# Altium integrated library 25157.IntLib: 97 symbols
Pins are listed as number, name and electrical type; pins without a type are passive.

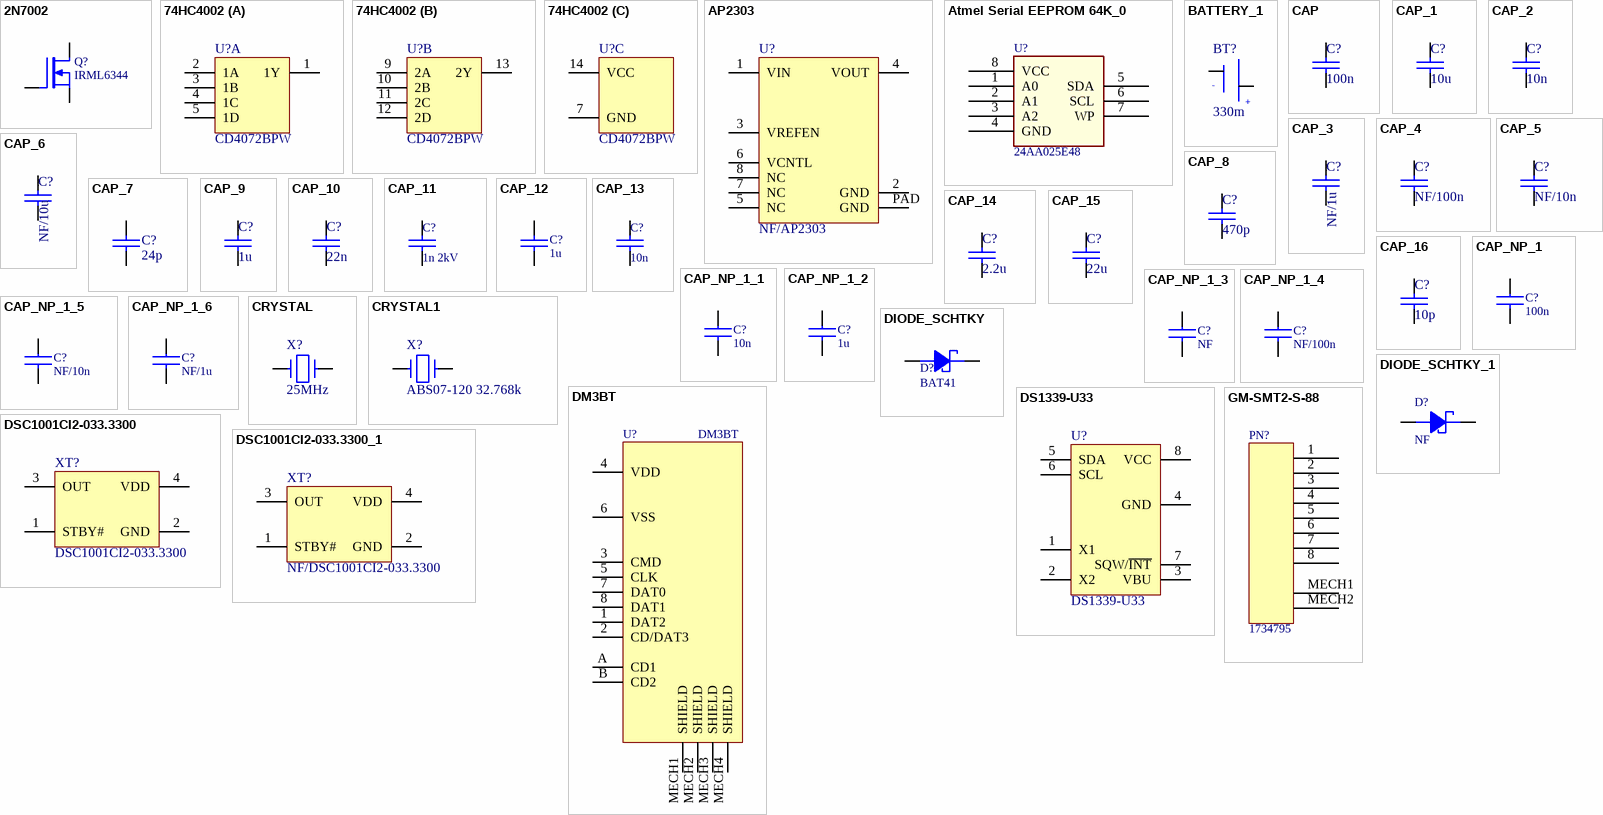
[diagram p0: symbols 2N7002 to GM-SMT2-S-88]

## 2N7002
designator Q?, comment IRML6344
IRLML6344, N-channel MOSFET, logic level gate, Rds: 29mOhm, Id: 5A, Vds: 30V,  SOT-23, RoHS compliant; ID: 18539; DBdesc: IRLML6344, N-channel MOSFET, logic level gate, Rds: 29mOhm, Id: 5A, Vds: 30V,  SOT-23, RoHS compliant
footprint SOT-23 (3 pin SOT-23 SMD)
pins: 1 G, 2 S, 3 D

## 74HC4002
designator U?, comment CD4072BPW
ID: 28923; DBDesc: CD4072 dual 4-input OR gate, TSSOP-14, RoHS compliant
footprint TSSOP14 (TSOP, 14-Leads, Body 5.0x4.4mm (max), Pitch 0.65mm, IPC Medium Density)
part A pins: 1 1Y, 2 1A, 3 1B, 4 1C, 5 1D
part B pins: 9 2A, 10 2B, 11 2C, 12 2D, 13 2Y
part C pins: 6 NC hidden, 7 GND, 8 NC hidden, 14 VCC

## AP2303
designator U?, comment NF/AP2303
ID: 908; DBDesc: do not populate, RoHS compliant
footprint PSOP-8
footprint NF_PSOP-8
pins: 1 VIN, 2 GND, 3 VREFEN, 4 VOUT, 5 NC, 6 VCNTL, 7 NC, 8 NC, PAD GND

## Atmel Serial EEPROM 64K_0
designator U?, comment 24AA025E48
Microchip 24AA02E48-I/SN, 2kbit (256x8) CMOS MAC-addressable I2C EEPROM, 1.8V, SO-8, non-selectable address (fixed at 1010 ***X), RoHS compliant; ID: 17759; DBDesc: Microchip 24AA02E48-I/SN, 2kbit (256x8) CMOS MAC-addressable I2C EEPROM, 1.8V, SO-8, non-selectable address (fixed at 1010 ***X), RoHS compliant
footprint SO-8 (8 pin Small Outline SMD)
pins: 1 A0, 2 A1, 3 A2, 4 GND (power), 5 SDA, 6 SCL, 7 WP, 8 VCC (power)

## BATTERY_1
designator BT?, comment 330m
Panasonic ML1220/F1AN, Manganese Lithium coin battery, 3V, PCB SMT,, RoHS compliant; DBDesc: 330m 5.5V super capacitor -40-+85degC 13.5mm 8.5mm tall, RoHS compliant (DUPLICATE OF ID#22645); ID: 27713
footprint KW-5R5C
pins: 1 pos1, 2 neg
text: -; +

## CAP
designator C?, comment 100n
10u 20% 6.3V 0603 X5R ceramic capacitor, RoHS compliant; DBDesc: 100n 16V X7R 10% 0402 ceramic capacitor, RoHS compliant; ID: 12509
footprint 0402C (Footprint not found)
pins: 1, 2

## CAP_1
designator C?, comment 10u
10u 20% 6.3V 0603 X5R ceramic capacitor, RoHS compliant; ID: 11253; DBDesc: 10u 20% 6.3V 0603 X5R ceramic capacitor, RoHS compliant
footprint 0603C
pins: 1, 2

## CAP_2
designator C?, comment 10n
10u 20% 6.3V 0603 X5R ceramic capacitor, RoHS compliant; DBDesc: 10n 10% 50V 0402 X7R ceramic capacitor, RoHS compliant; ID: 16887
footprint 0402C (Footprint not found)
footprint 0402C_SML
pins: 1, 2

## CAP_3
designator C?, comment NF/1u
10u 20% 6.3V 0603 X5R ceramic capacitor, RoHS compliant; DBDesc: do not populate, RoHS compliant; ID: 908; Preffered ID: 16358
footprint 0402C (Footprint not found)
footprint NF_0402C
pins: 1, 2

## CAP_4
designator C?, comment NF/100n
10u 20% 6.3V 0603 X5R ceramic capacitor, RoHS compliant; DBDesc: do not populate, RoHS compliant; ID: 908
footprint 0402C (Footprint not found)
footprint NF_0402C
pins: 1, 2

## CAP_5
designator C?, comment NF/10n
10u 20% 6.3V 0603 X5R ceramic capacitor, RoHS compliant; DBDesc: do not populate, RoHS compliant; ID: 908
footprint 0402C (Footprint not found)
footprint NF_0402C
pins: 1, 2

## CAP_6
designator C?, comment NF/10u
10u 20% 6.3V 0603 X5R ceramic capacitor, RoHS compliant; DBDesc: do not populate, RoHS compliant; ID: 908; Preffered ID: 11253
footprint 0603C
footprint NF_0603C
pins: 1, 2

## CAP_7
designator C?, comment 24p
100n 10% 50V 0603 X7R; DBDesc: 24p 2% 50V 0402 NPO ceramic capacitor, RoHS compliant; ID: 22456
footprint 0402C (Chip Capacitor, 2-Leads, Body 1.0x0.5mm, IPC Medium Density)
pins: 1, 2

## CAP_8
designator C?, comment 470p
10u 20% 6.3V 0603 X5R ceramic capacitor, RoHS compliant; DBDesc: 470p 5% 50V NPO 0402 ceramic capacitor, RoHS compliant; ID: 11966
footprint 0402C (Footprint not found)
pins: 1, 2

## CAP_9
designator C?, comment 1u
10u 20% 6.3V 0603 X5R ceramic capacitor, RoHS compliant; DBDesc: 1u 10% 16V X5R 0402 ceramic capacitor, RoHS compliant; ID: 16358
footprint 0402C (Footprint not found)
pins: 1, 2

## CAP_10
designator C?, comment 22n
10u 20% 6.3V 0603 X5R ceramic capacitor, RoHS compliant; DBDesc: 22n 25V X7R 10% 0402 ceramic capacitor, RoHS compliant; ID: 20128
footprint 0402C (Footprint not found)
pins: 1, 2

## CAP_11
designator C?, comment 1n 2kV
1n 10% 2kV 1206 X7R ceramic capacitor, RoHS compliant; ID: 15771; DBDesc: 1n 10% 2kV 1206 X7R ceramic capacitor, RoHS compliant
footprint 1206C
pins: 1, 2

## CAP_12
designator C?, comment 1u
1u 10% 16V X5R 0402 ceramic capacitor, RoHS compliant; ID: 16358; DBDesc: 1u 10% 16V X5R 0402 ceramic capacitor, RoHS compliant
footprint 0402C
pins: 1, 2

## CAP_13
designator C?, comment 10n
100n 6.3V X7R 10% 0402 ceramic capacitor, RoHS compliant (SUPERSEDED BY ID#12509); DBDesc: 10n 10% 50V 0402 X7R ceramic capacitor, RoHS compliant; ID: 16887
footprint 0402C
pins: 1, 2

## CAP_14
designator C?, comment 2.2u
10u 20% 6.3V 0603 X5R ceramic capacitor, RoHS compliant; DBDesc: 2.2u 6.3V 10% X5R 0402 ceramic capacitor, RoHS compliant; ID: 16336
footprint 0402C (Footprint not found)
footprint 0402C_SML
pins: 1, 2

## CAP_15
designator C?, comment 22u
10u 20% 6.3V 0603 X5R ceramic capacitor, RoHS compliant; DBDesc: 22u, 0805, ceramic capacitor, 10V, X5R, +/-20%, 1.35mm thick, -55°C ~ 85°C, RoHS compliant (CAN FREELY SUBSTITUTE WITH ID#11837); ID: 18236
footprint 0805C
pins: 1, 2

## CAP_16
designator C?, comment 10p
10u 20% 6.3V 0603 X5R ceramic capacitor, RoHS compliant; DBDesc: 10p 5% 50V 0402 NPO ceramic capacitor AEC-Q200 qualified, RoHS compliant; ID: 23136
footprint 0402C (Footprint not found)
pins: 1, 2

## CAP_NP_1
designator C?, comment 100n
100n 6.3V X7R 10% 0402 ceramic capacitor, RoHS compliant (SUPERSEDED BY ID#12509); DBDesc: 100n 16V X7R 10% 0402 ceramic capacitor, RoHS compliant; ID: 12509
footprint 0402C
pins: 1, 2

## CAP_NP_1_1
designator C?, comment 10n
100n 6.3V X7R 10% 0402 ceramic capacitor, RoHS compliant (SUPERSEDED BY ID#12509); DBDesc: 10n 10% 50V 0402 X7R ceramic capacitor, RoHS compliant; ID: 16887
footprint 0402C
pins: 1, 2

## CAP_NP_1_2
designator C?, comment 1u
100n 6.3V X7R 10% 0402 ceramic capacitor, RoHS compliant (SUPERSEDED BY ID#12509); DBDesc: 1u 10% 16V X5R 0402 ceramic capacitor, RoHS compliant; ID: 16358
footprint 0402C
pins: 1, 2

## CAP_NP_1_3
designator C?, comment NF
100n 6.3V X7R 10% 0402 ceramic capacitor, RoHS compliant (SUPERSEDED BY ID#12509); DBDesc: do not populate, RoHS compliant; ID: 908; Preffered ID: 908
footprint 0402C
footprint NF_0402C
pins: 1, 2

## CAP_NP_1_4
designator C?, comment NF/100n
100n 6.3V X7R 10% 0402 ceramic capacitor, RoHS compliant (SUPERSEDED BY ID#12509); DBDesc: do not populate, RoHS compliant; ID: 908
footprint 0402C_SML (Chip Capacitor, 2-Leads, Body 1.0x0.5mm, IPC Medium Density)
footprint NF_0402C_SML
pins: 1, 2

## CAP_NP_1_5
designator C?, comment NF/10n
100n 6.3V X7R 10% 0402 ceramic capacitor, RoHS compliant (SUPERSEDED BY ID#12509); DBDesc: do not populate, RoHS compliant; ID: 908
footprint 0402C
footprint NF_0402C
pins: 1, 2

## CAP_NP_1_6
designator C?, comment NF/1u
100n 6.3V X7R 10% 0402 ceramic capacitor, RoHS compliant (SUPERSEDED BY ID#12509); DBDesc: do not populate, RoHS compliant; ID: 908
footprint 0402C
footprint NF_0402C
pins: 1, 2

## CRYSTAL
designator X?, comment 25MHz
25.0000 MHz CS325 18pF SMD Crystal, RoHS compliant; DBDesc: CTS 25MHz crystal, ±30ppm frequency stability, ±20ppm frequency tolerance, 18pF, 40ohm, -40°C ~ 85°C, 5mm x 3.2mm, RoHS compliant; ID: 24153
footprint CTS_445
pins: 1, 2

## CRYSTAL1
designator X?, comment ABS07-120 32.768k
ID: 22914; DBDesc: 32.768kHz ABS07-120, 20ppm, 6pF load, 60k ESR, 3.2x1.5mm crystal, RoHS compliant
footprint ABS07
pins: 1, 2

## DIODE_SCHTKY
designator D?, comment BAT41
'''BAT41 Schottky diode, small signal''' / - If(avg) = 200mA, Vf(max) = 1V@200mA / - Vr(max) = 100V, Ir = 100nA@50V, 25deg / - SOD-523 package, RoHS compliant; DBDesc: BAT41KFILM 200mA 100V Schottky diode, small signal SOD-523 package, RoHS compliant; ID: 20995
footprint SOD-523
pins: 1 A, 2 C

## DIODE_SCHTKY_1
designator D?, comment NF
'''BAT41 Schottky diode, small signal''' / - If(avg) = 200mA, Vf(max) = 1V@200mA / - Vr(max) = 100V, Ir = 100nA@50V, 25deg / - SOD-523 package, RoHS compliant; DBDesc: do not populate, RoHS compliant; ID: 908; Preffered ID: 20995
footprint NF_SOD-523 (Footprint not found)
pins: 1 A, 2 C

## DM3BT
designator U?
Hirose DM3BT-DSF-PEJS microSD push-push bottom mount connector, RoHS compliant; ID: 20804; DBDesc: Hirose DM3BT-DSF-PEJS microSD push-push bottom mount connector, RoHS compliant
footprint DM3BT-DSF-PEJS
pins: 1 DAT2, 2 CD/DAT3, 3 CMD, 4 VDD, 5 CLK, 6 VSS, 7 DAT0, 8 DAT1, A CD1, B CD2, MECH1 SHIELD, MECH2 SHIELD, MECH3 SHIELD, MECH4 SHIELD

## DS1339-U33
designator U?
DBDesc: DS1339U-33+ RTC I2C w/alarm USOP-8, RoHS compliant; ID: 11376
footprint USOP-8
pins: 1 X1, 2 X2, 3 VBU, 4 GND, 5 SDA, 6 SCL, 7 SQW/~{INT}, 8 VCC

## DSC1001CI2-033.3300
designator XT?
DBDesc: Micrel DSC1001CI2-033.3300, MEMS oscillator, 33.33MHz, ±25ppm, 1.8V ~ 3.3V, -40°C ~ +85°C, 3.2mm x 2.5mm, AEC-Q100, RoHS compliant; ID: 25867
footprint DSC1001
pins: 1 STBY#, 2 GND, 3 OUT, 4 VDD

## DSC1001CI2-033.3300_1
designator XT?, comment NF/DSC1001CI2-033.3300
DSC1001CI2-033.3300; DBDesc: do not populate, RoHS compliant; ID: 908
footprint DSC1001
footprint NF_DSC1001
pins: 1 STBY#, 2 GND, 3 OUT, 4 VDD

## GM-SMT2-S-88
designator PN?, comment 1734795
Amphenol Commercial Products / RJLSE4238101T Right-angle RJ45 8P8C Shielded, RoHS compliant; DBDesc: TE Connectivity 1734795-1, RJ-45 jack, through hole, RoHS compliant; ID: 26274
footprint 1734795; pin to pad MECH>MECH2 MECH1>SH1 MECH2>SH2
pins: 1, 2, 3, 4, 5, 6, 7, 8, MECH1, MECH2

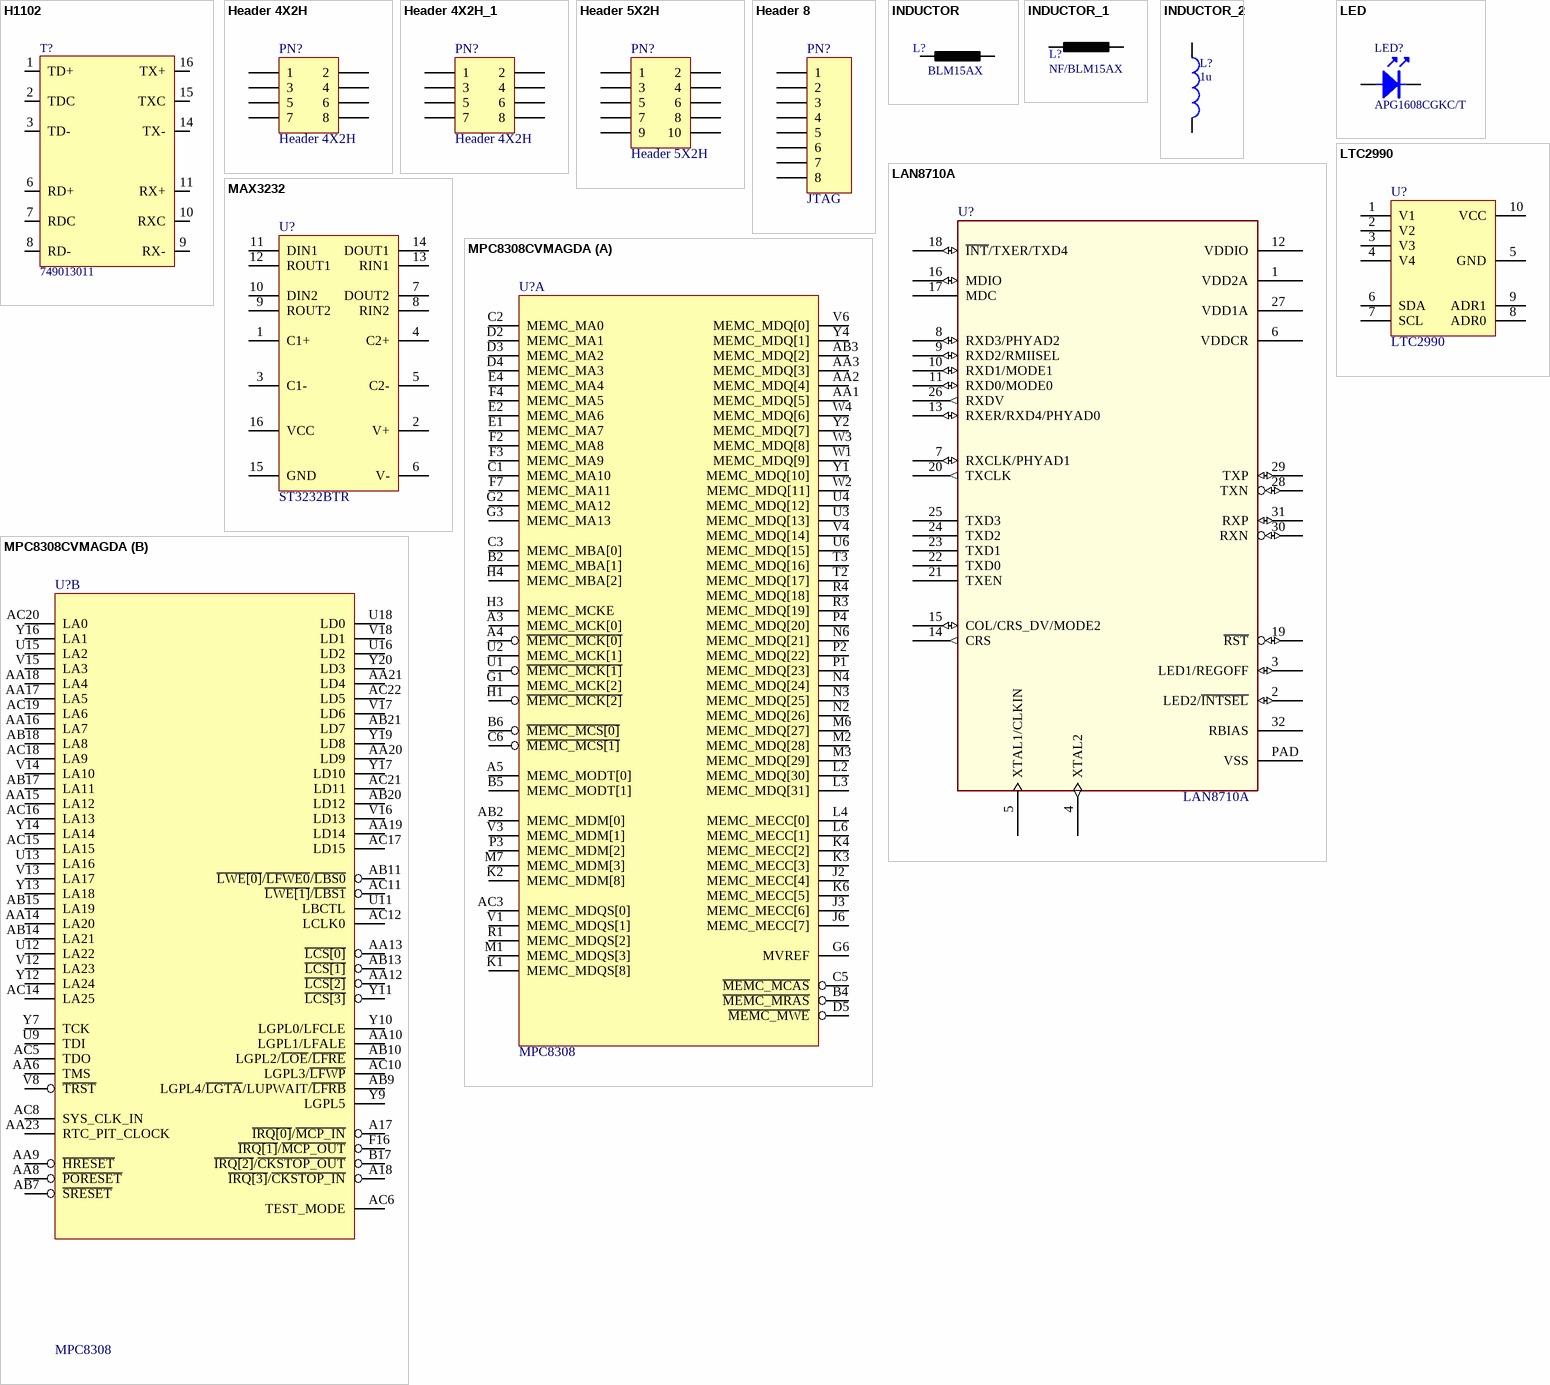
[diagram p1: symbols H1102 to MPC8308CVMAGDA]

## H1102
designator T?, comment 749013011
Wurth-Midcom 749013011 10/100Mb 1:1 Ethernet 802.3af PoE transformer, 16-pin SMT package, RoHS compliant; ID: 20893; DBDesc: Wurth-Midcom 749013011 10/100Mb 1:1 Ethernet 802.3af PoE transformer, 16-pin SMT package, RoHS compliant
footprint H1102
pins: 1 TD+, 2 TDC, 3 TD-, 6 RD+, 7 RDC, 8 RD-, 9 RX-, 10 RXC, 11 RX+, 14 TX-, 15 TXC, 16 TX+

## Header 4X2H
designator PN?
Header, 4-Pin, Dual row, Right Angle; DBDesc: 4+4 pin dual-row gold-plated right angle pin header 2.54mm pitch (BREAK OFF FROM ID#596); ID: 3161
footprint 2.54_2x4
pins: 1, 2, 3, 4, 5, 6, 7, 8

## Header 4X2H_1
designator PN?, comment Header 4X2H
Header, 4-Pin, Dual row, Vertical; DBDesc: 4+4-pin dual-row gold-plated vertical pin header 2.54mm pitch (BREAK OFF FROM ID#8823), RoHS compliant (CAN FREELY SUBSTITUTE WITH ID#8823); ID: 890
footprint 2.54_2x4_V
pins: 1, 2, 3, 4, 5, 6, 7, 8

## Header 5X2H
designator PN?
Header, 5-Pin, Dual row, Right Angle; DBDesc: 5+5-pin right angle dual-row gold-plated horizontal pin header 2.54mm pitch (BREAK OFF FROM ID#596) or (BREAK OFF FROM ID#11100), RoHS compliant; ID: 11101
footprint 2.54_2x5
pins: 1, 2, 3, 4, 5, 6, 7, 8, 9, 10

## Header 8
designator PN?, comment JTAG
pin header, single-row 8-way 2.54mm-pitch straight gold; ID: 5634; DBDesc: pin header, single-row 8-way 2.54mm-pitch straight gold (BREAK OFF FROM ID#677 OR ID#13131), RoHS compliant (SUPERSEDED BY ID#13131)
footprint 2.54_1x8
pins: 1, 2, 3, 4, 5, 6, 7, 8

## INDUCTOR
designator L?, comment BLM15AX
BLM15AX601SN1D, 340mR/600R (100MHz) 420mA 0402 ferrite bead, RoHS compliant; ID: 16397; DBDesc: BLM15AX601SN1D, 340mR/600R (100MHz) 420mA 0402 ferrite bead, RoHS compliant
footprint 0402L
pins: 1, 2

## INDUCTOR_1
designator L?, comment NF/BLM15AX
BLM15AX601SN1D, 340mR/600R (100MHz) 420mA 0402 ferrite bead, RoHS compliant; DBDesc: do not populate, RoHS compliant; ID: 908
footprint 0402L
footprint NF_0402L
pins: 1, 2

## INDUCTOR_2
designator L?, comment 1u
1u 3.8A 25mR 20% IFSC-1515 inductor, RoHS compliant; DBDesc: Wurth 74404042010, 1u 3.2A 27mR 30% inductor, RoHS compliant; ID: 25863
footprint WE-LQS
pins: 1, 2

## LAN8710A
designator U?
SMSC/Microchip LAN8710AI MII/RMII 10/100 Ethernet PHY QFN-32; ID: 22445; DBDesc: '''SMSC/Microchip LAN8710AI MII/RMII 10/100 Ethernet PHY QFN-32''' / - Single Supply: +1.6V -> +3.6V or external +1.2V / - -40degC -> +85degC, RoHS compliant
footprint QFN32-SMSC-5x5mm
pins: 1 VDD2A (power), 2 LED2/~{INTSEL} (io), 3 LED1/REGOFF (io), 4 XTAL2 (out), 5 XTAL1/CLKIN, 6 VDDCR (power), 7 RXCLK/PHYAD1 (io), 8 RXD3/PHYAD2 (io), 9 RXD2/RMIISEL (io), 10 RXD1/MODE1 (io), 11 RXD0/MODE0 (io), 12 VDDIO (power), 13 RXER/RXD4/PHYAD0 (io), 14 CRS (out), 15 COL/CRS_DV/MODE2 (io), 16 MDIO (io), 17 MDC, 18 ~{INT}/TXER/TXD4 (io), 19 ~{RST} (io), 20 TXCLK (out), 21 TXEN, 22 TXD0, 23 TXD1, 24 TXD2, 25 TXD3, 26 RXDV (out), 27 VDD1A (power), 28 TXN (io), 29 TXP (io), 30 RXN (io), 31 RXP (io), 32 RBIAS (power), PAD VSS (power)

## LED
designator LED?, comment APG1608CGKC/T
Lite-On LTST-S110KGKT, green SMT LED, right angle, 130° viewing angle, Vf=2V, 35mcd, RoHS compliant; DBDesc: '''Kingbright APG1608CGKC/T''' / (LED 1.6X0.8MM 571NM GRN CLR SMD) / Colour: Green / Forward Current: 20mA / Wavelength 571nm / Viewing angle: 120° / , RoHS compliant; ID: 25406
footprint APG1608
pins: 1, 2

## LTC2990
designator U?
ID: 19355; DBDesc: Linear LTC2990IMS quad I2C voltage, current and temperature monitor, -40°C to +85°C, 10-pin MSOP, RoHS compliant
footprint MSOP-10 (Footprint not found)
pins: 1 V1, 2 V2, 3 V3, 4 V4, 5 GND, 6 SDA, 7 SCL, 8 ADR0, 9 ADR1, 10 VCC

## MAX3232
designator U?, comment ST3232BTR
ST Microelectronics ST3232BTR, 16-TSSOP RS232 2Tx/2Rx 3–5V -40—85 degrees, RoHS compliant; ID: 14620; DBDesc: ST Microelectronics ST3232BTR, 16-TSSOP RS232 2Tx/2Rx 3–5V -40—85 degrees, RoHS compliant
footprint TSSOP-16
pins: 1 C1+, 2 V+ (power), 3 C1-, 4 C2+, 5 C2-, 6 V- (power), 7 DOUT2, 8 RIN2, 9 ROUT2, 10 DIN2, 11 DIN1, 12 ROUT1, 13 RIN1, 14 DOUT1, 15 GND (power), 16 VCC (power)

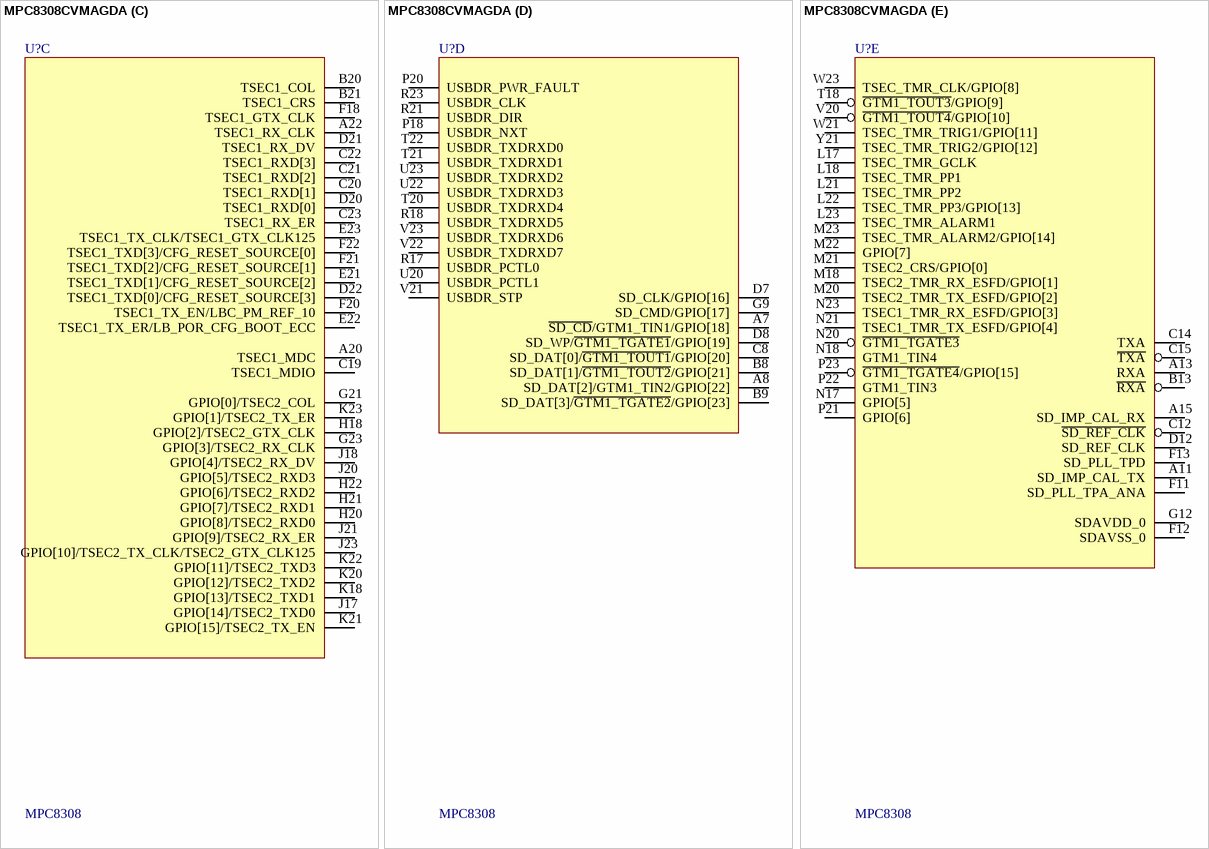
[diagram p2: symbol MPC8308CVMAGDA]

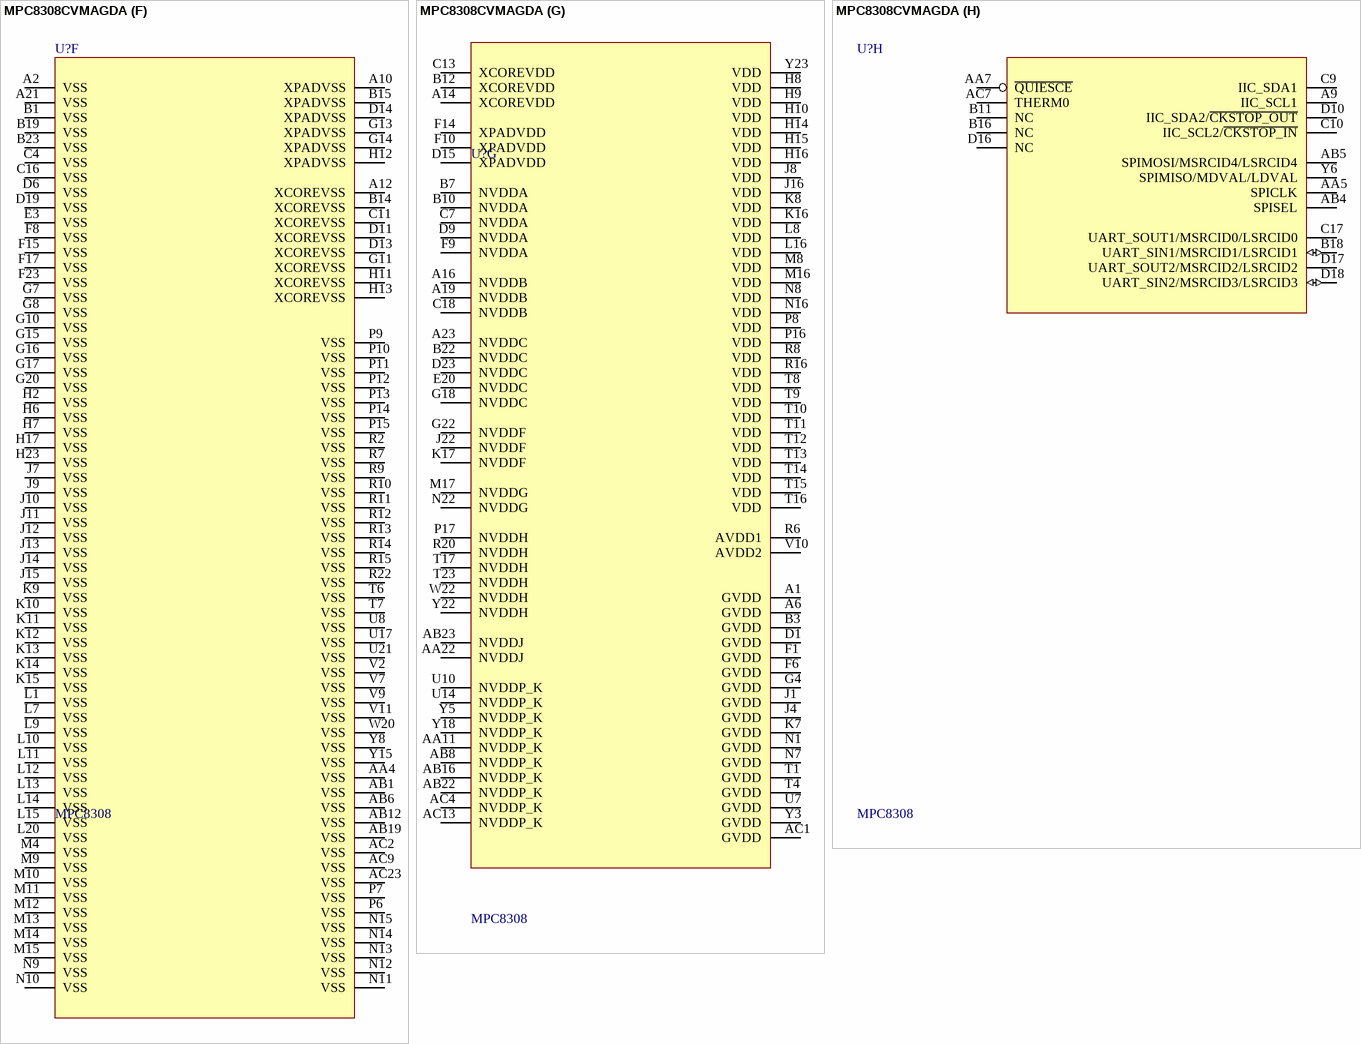
[diagram p3: symbol MPC8308CVMAGDA]

## MPC8308CVMAGDA
designator U?, comment MPC8308
DBDesc: Freescale MPC8308CVMAGDA 400MHz PowerPC Processor TEPBGAII, RoHS compliant; ID: 24087
footprint MAPBGA-MPC8308
part A pins: A3 MEMC_MCK[0], A4 ~{MEMC_MCK[0]}, A5 MEMC_MODT[0], AA1 MEMC_MDQ[5], AA2 MEMC_MDQ[4], AA3 MEMC_MDQ[3], AB2 MEMC_MDM[0], AB3 MEMC_MDQ[2], AC3 MEMC_MDQS[0], B2 MEMC_MBA[1], B4 ~{MEMC_MRAS}, B5 MEMC_MODT[1], B6 ~{MEMC_MCS[0]}, C1 MEMC_MA10, C2 MEMC_MA0, C3 MEMC_MBA[0], C5 ~{MEMC_MCAS}, C6 ~{MEMC_MCS[1]}, D2 MEMC_MA1, D3 MEMC_MA2, D4 MEMC_MA3, D5 ~{MEMC_MWE}, E1 MEMC_MA7, E2 MEMC_MA6, E4 MEMC_MA4, F2 MEMC_MA8, F3 MEMC_MA9, F4 MEMC_MA5, F7 MEMC_MA11, G1 MEMC_MCK[2], G2 MEMC_MA12, G3 MEMC_MA13, G6 MVREF, H1 ~{MEMC_MCK[2]}, H3 MEMC_MCKE, H4 MEMC_MBA[2], J2 MEMC_MECC[4], J3 MEMC_MECC[6], J6 MEMC_MECC[7], K1 MEMC_MDQS[8], K2 MEMC_MDM[8], K3 MEMC_MECC[3], K4 MEMC_MECC[2], K6 MEMC_MECC[5], L2 MEMC_MDQ[30], L3 MEMC_MDQ[31], L4 MEMC_MECC[0], L6 MEMC_MECC[1], M1 MEMC_MDQS[3], M2 MEMC_MDQ[28], M3 MEMC_MDQ[29], M6 MEMC_MDQ[27], M7 MEMC_MDM[3], N2 MEMC_MDQ[26], N3 MEMC_MDQ[25], N4 MEMC_MDQ[24], N6 MEMC_MDQ[21], P1 MEMC_MDQ[23], P2 MEMC_MDQ[22], P3 MEMC_MDM[2], P4 MEMC_MDQ[20], R1 MEMC_MDQS[2], R3 MEMC_MDQ[19], R4 MEMC_MDQ[18], T2 MEMC_MDQ[17], T3 MEMC_MDQ[16], U1 ~{MEMC_MCK[1]}, U2 MEMC_MCK[1], U3 MEMC_MDQ[13], U4 MEMC_MDQ[12], U6 MEMC_MDQ[15], V1 MEMC_MDQS[1], V3 MEMC_MDM[1], V4 MEMC_MDQ[14], V6 MEMC_MDQ[0], W1 MEMC_MDQ[9], W2 MEMC_MDQ[11], W3 MEMC_MDQ[8], W4 MEMC_MDQ[6], Y1 MEMC_MDQ[10], Y2 MEMC_MDQ[7], Y4 MEMC_MDQ[1]
part B pins: A17 ~{IRQ[0]}/~{MCP_IN}, A18 ~{IRQ[3]}/~{CKSTOP_IN}, AA6 TMS, AA8 ~{PORESET}, AA9 ~{HRESET}, AA10 LGPL1/LFALE, AA12 ~{LCS[2]}, AA13 ~{LCS[0]}, AA14 LA20, AA15 LA12, AA16 LA7, AA17 LA5, AA18 LA4, AA19 LD14, AA20 LD9, AA21 LD4, AA23 RTC_PIT_CLOCK, AB7 ~{SRESET}, AB9 LGPL4/~{LGTA}/LUPWAIT/~{LFRB}, AB10 LGPL2/~{LOE}/~{LFRE}, AB11 ~{LWE[0]}/~{LFWE0}/~{LBS0}, AB13 ~{LCS[1]}, AB14 LA21, AB15 LA19, AB17 LA11, AB18 LA8, AB20 LD12, AB21 LD7, AC5 TDO, AC6 TEST_MODE, AC8 SYS_CLK_IN, AC10 LGPL3/~{LFWP}, AC11 ~{LWE[1]}/~{LBS1}, AC12 LCLK0, AC14 LA25, AC15 LA15, AC16 LA13, AC17 LD15, AC18 LA9, AC19 LA6, AC20 LA0, AC21 LD11, AC22 LD5, B17 ~{IRQ[2]}/~{CKSTOP_OUT}, F16 ~{IRQ[1]}/~{MCP_OUT}, U9 TDI, U11 LBCTL, U12 LA22, U13 LA16, U15 LA2, U16 LD2, U18 LD0, V8 ~{TRST}, V12 LA23, V13 LA17, V14 LA10, V15 LA3, V16 LD13, V17 LD6, V18 LD1, Y7 TCK, Y9 LGPL5, Y10 LGPL0/LFCLE, Y11 ~{LCS[3]}, Y12 LA24, Y13 LA18, Y14 LA14, Y16 LA1, Y17 LD10, Y19 LD8, Y20 LD3
part C pins: A20 TSEC1_MDC, A22 TSEC1_RX_CLK, B20 TSEC1_COL, B21 TSEC1_CRS, C19 TSEC1_MDIO, C20 TSEC1_RXD[1], C21 TSEC1_RXD[2], C22 TSEC1_RXD[3], C23 TSEC1_RX_ER, D20 TSEC1_RXD[0], D21 TSEC1_RX_DV, D22 TSEC1_TXD[0]/CFG_RESET_SOURCE[3], E21 TSEC1_TXD[1]/CFG_RESET_SOURCE[2], E22 TSEC1_TX_ER/LB_POR_CFG_BOOT_ECC, E23 TSEC1_TX_CLK/TSEC1_GTX_CLK125, F18 TSEC1_GTX_CLK, F20 TSEC1_TX_EN/LBC_PM_REF_10, F21 TSEC1_TXD[2]/CFG_RESET_SOURCE[1], F22 TSEC1_TXD[3]/CFG_RESET_SOURCE[0], G21 GPIO[0]/TSEC2_COL, G23 GPIO[3]/TSEC2_RX_CLK, H18 GPIO[2]/TSEC2_GTX_CLK, H20 GPIO[8]/TSEC2_RXD0, H21 GPIO[7]/TSEC2_RXD1, H22 GPIO[6]/TSEC2_RXD2, J17 GPIO[14]/TSEC2_TXD0, J18 GPIO[4]/TSEC2_RX_DV, J20 GPIO[5]/TSEC2_RXD3, J21 GPIO[9]/TSEC2_RX_ER, J23 GPIO[10]/TSEC2_TX_CLK/TSEC2_GTX_CLK125, K18 GPIO[13]/TSEC2_TXD1, K20 GPIO[12]/TSEC2_TXD2, K21 GPIO[15]/TSEC2_TX_EN, K22 GPIO[11]/TSEC2_TXD3, K23 GPIO[1]/TSEC2_TX_ER
part D pins: A7 ~{SD_CD}/GTM1_TIN1/GPIO[18], A8 SD_DAT[2]/GTM1_TIN2/GPIO[22], B8 SD_DAT[1]/~{GTM1_TOUT2}/GPIO[21], B9 SD_DAT[3]/~{GTM1_TGATE2}/GPIO[23], C8 SD_DAT[0]/~{GTM1_TOUT1}/GPIO[20], D7 SD_CLK/GPIO[16], D8 SD_WP/~{GTM1_TGATE1}/GPIO[19], G9 SD_CMD/GPIO[17], P18 USBDR_NXT, P20 USBDR_PWR_FAULT, R17 USBDR_PCTL0, R18 USBDR_TXDRXD5, R21 USBDR_DIR, R23 USBDR_CLK, T20 USBDR_TXDRXD4, T21 USBDR_TXDRXD1, T22 USBDR_TXDRXD0, U20 USBDR_PCTL1, U22 USBDR_TXDRXD3, U23 USBDR_TXDRXD2, V21 USBDR_STP, V22 USBDR_TXDRXD7, V23 USBDR_TXDRXD6
part E pins: A11 SD_IMP_CAL_TX, A13 RXA, A15 SD_IMP_CAL_RX, B13 ~{RXA}, C12 ~{SD_REF_CLK}, C14 TXA, C15 ~{TXA}, D12 SD_REF_CLK, F11 SD_PLL_TPA_ANA, F12 SDAVSS_0, F13 SD_PLL_TPD, G12 SDAVDD_0, L17 TSEC_TMR_GCLK, L18 TSEC_TMR_PP1, L21 TSEC_TMR_PP2, L22 TSEC_TMR_PP3/GPIO[13], L23 TSEC_TMR_ALARM1, M18 TSEC2_TMR_RX_ESFD/GPIO[1], M20 TSEC2_TMR_TX_ESFD/GPIO[2], M21 TSEC2_CRS/GPIO[0], M22 GPIO[7], M23 TSEC_TMR_ALARM2/GPIO[14], N17 GPIO[5], N18 GTM1_TIN4, N20 ~{GTM1_TGATE3}, N21 TSEC1_TMR_TX_ESFD/GPIO[4], N23 TSEC1_TMR_RX_ESFD/GPIO[3], P21 GPIO[6], P22 GTM1_TIN3, P23 ~{GTM1_TGATE4}/GPIO[15], T18 ~{GTM1_TOUT3}/GPIO[9], V20 ~{GTM1_TOUT4}/GPIO[10], W21 TSEC_TMR_TRIG1/GPIO[11], W23 TSEC_TMR_CLK/GPIO[8], Y21 TSEC_TMR_TRIG2/GPIO[12]
part F pins: A2 VSS, A10 XPADVSS, A12 XCOREVSS, A21 VSS, AA4 VSS, AB1 VSS, AB6 VSS, AB12 VSS, AB19 VSS, AC2 VSS, AC9 VSS, AC23 VSS, B1 VSS, B14 XCOREVSS, B15 XPADVSS, B19 VSS, B23 VSS, C4 VSS, C11 XCOREVSS, C16 VSS, D6 VSS, D11 XCOREVSS, D13 XCOREVSS, D14 XPADVSS, D19 VSS, E3 VSS, F8 VSS, F15 VSS, F17 VSS, F23 VSS, G7 VSS, G8 VSS, G10 VSS, G11 XCOREVSS, G13 XPADVSS, G14 XPADVSS, G15 VSS, G16 VSS, G17 VSS, G20 VSS, H2 VSS, H6 VSS, H7 VSS, H11 XCOREVSS, H12 XPADVSS, H13 XCOREVSS, H17 VSS, H23 VSS, J7 VSS, J9 VSS, J10 VSS, J11 VSS, J12 VSS, J13 VSS, J14 VSS, J15 VSS, K9 VSS, K10 VSS, K11 VSS, K12 VSS, K13 VSS, K14 VSS, K15 VSS, L1 VSS, L7 VSS, L9 VSS, L10 VSS, L11 VSS, L12 VSS, L13 VSS, L14 VSS, L15 VSS, L20 VSS, M4 VSS, M9 VSS, M10 VSS, M11 VSS, M12 VSS, M13 VSS, M14 VSS, M15 VSS, N9 VSS, N10 VSS, N11 VSS, N12 VSS, N13 VSS, N14 VSS, N15 VSS, P6 VSS, P7 VSS, P9 VSS, P10 VSS, P11 VSS, P12 VSS, P13 VSS, P14 VSS, P15 VSS, R2 VSS, R7 VSS, R9 VSS, R10 VSS, R11 VSS, R12 VSS, R13 VSS, R14 VSS, R15 VSS, R22 VSS, T6 VSS, T7 VSS, U8 VSS, U17 VSS, U21 VSS, V2 VSS, V7 VSS, V9 VSS, V11 VSS, W20 VSS, Y8 VSS, Y15 VSS
part G pins: A1 GVDD, A6 GVDD, A14 XCOREVDD, A16 NVDDB, A19 NVDDB, A23 NVDDC, AA11 NVDDP_K, AA22 NVDDJ, AB8 NVDDP_K, AB16 NVDDP_K, AB22 NVDDP_K, AB23 NVDDJ, AC1 GVDD, AC4 NVDDP_K, AC13 NVDDP_K, B3 GVDD, B7 NVDDA, B10 NVDDA, B12 XCOREVDD, B22 NVDDC, C7 NVDDA, C13 XCOREVDD, C18 NVDDB, D1 GVDD, D9 NVDDA, D15 XPADVDD, D23 NVDDC, E20 NVDDC, F1 GVDD, F6 GVDD, F9 NVDDA, F10 XPADVDD, F14 XPADVDD, G4 GVDD, G18 NVDDC, G22 NVDDF, H8 VDD, H9 VDD, H10 VDD, H14 VDD, H15 VDD, H16 VDD, J1 GVDD, J4 GVDD, J8 VDD, J16 VDD, J22 NVDDF, K7 GVDD, K8 VDD, K16 VDD, K17 NVDDF, L8 VDD, L16 VDD, M8 VDD, M16 VDD, M17 NVDDG, N1 GVDD, N7 GVDD, N8 VDD, N16 VDD, N22 NVDDG, P8 VDD, P16 VDD, P17 NVDDH, R6 AVDD1, R8 VDD, R16 VDD, R20 NVDDH, T1 GVDD, T4 GVDD, T8 VDD, T9 VDD, T10 VDD, T11 VDD, T12 VDD, T13 VDD, T14 VDD, T15 VDD, T16 VDD, T17 NVDDH, T23 NVDDH, U7 GVDD, U10 NVDDP_K, U14 NVDDP_K, V10 AVDD2, W22 NVDDH, Y3 GVDD, Y5 NVDDP_K, Y18 NVDDP_K, Y22 NVDDH, Y23 VDD
part H pins: A9 IIC_SCL1, AA5 SPICLK, AA7 ~{QUIESCE}, AB4 SPISEL, AB5 SPIMOSI/MSRCID4/LSRCID4, AC7 THERM0, B11 NC, B16 NC, B18 UART_SIN1/MSRCID1/LSRCID1 (io), C9 IIC_SDA1, C10 IIC_SCL2/~{CKSTOP_IN}, C17 UART_SOUT1/MSRCID0/LSRCID0, D10 IIC_SDA2/~{CKSTOP_OUT}, D16 NC, D17 UART_SOUT2/MSRCID2/LSRCID2, D18 UART_SIN2/MSRCID3/LSRCID3 (io), Y6 SPIMISO/MDVAL/LDVAL

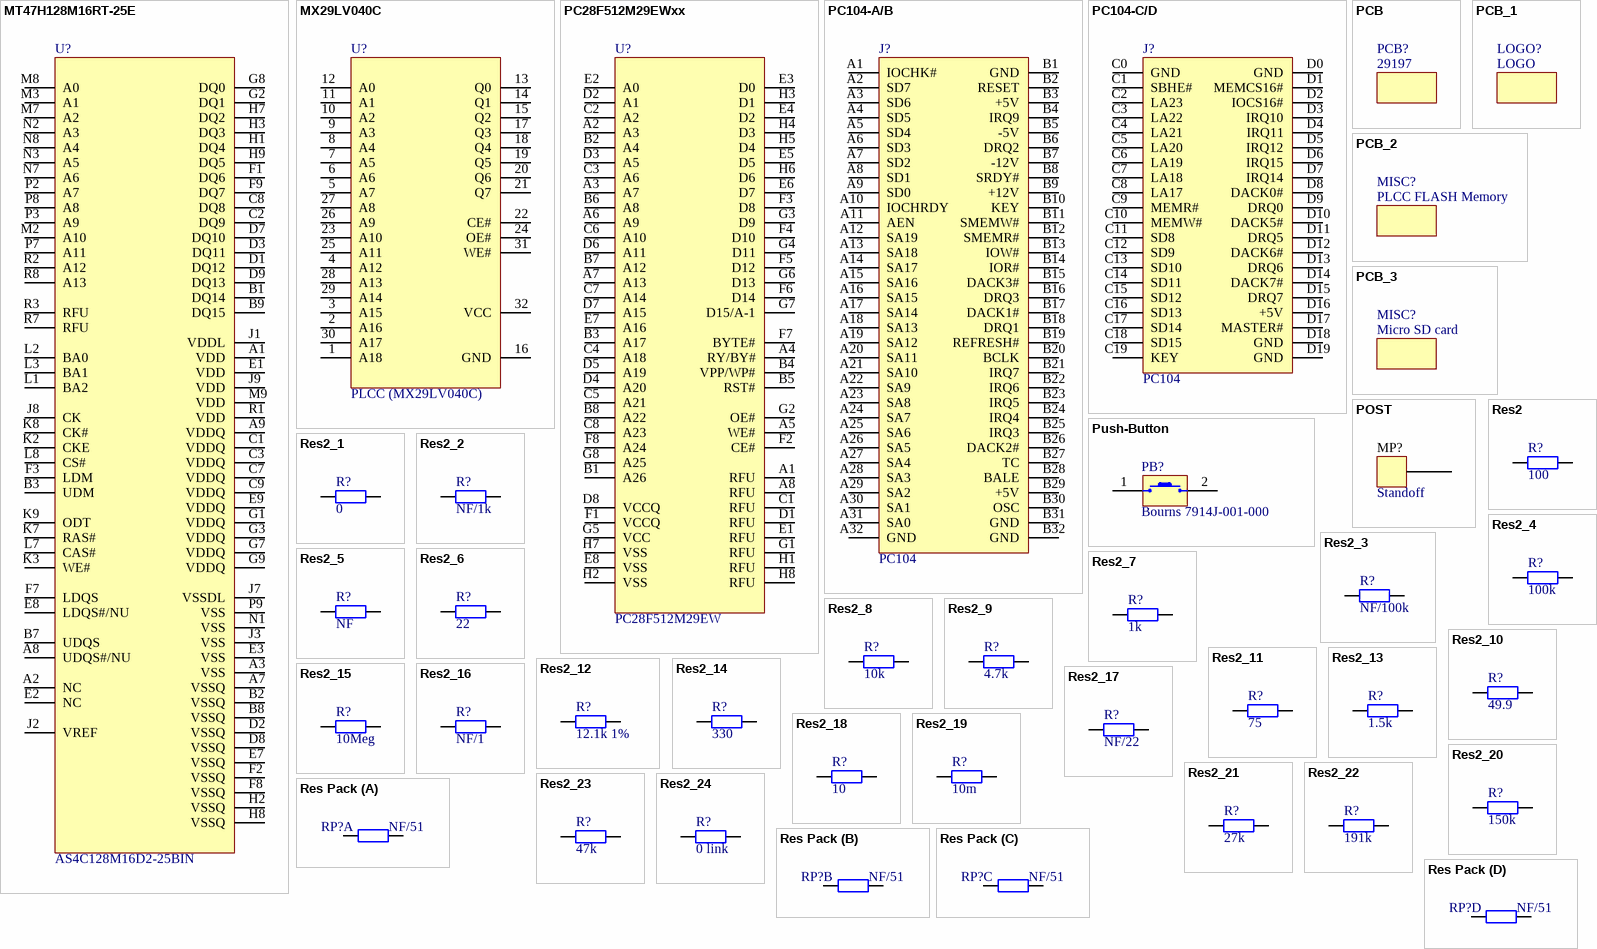
[diagram p4: symbols MT47H128M16RT-25E to Res Pack]

## MT47H128M16RT-25E
designator U?, comment AS4C128M16D2-25BIN
16Meg x 16 x 8 Banks DDR2 SDRAM; Possible alternate ID: 26125; DBDesc: AS4C128M16D2-25BIN, 128ZM x 16, DDR2 SDRAM, -40°C ~ +85°C, RoHS compliant; ID: 26142
footprint FBGA84
pins: A1 VDD, A2 NC, A3 VSS, A7 VSSQ, A8 UDQS#/NU, A9 VDDQ, B1 DQ14, B2 VSSQ, B3 UDM, B7 UDQS, B8 VSSQ, B9 DQ15, C1 VDDQ, C2 DQ9, C3 VDDQ, C7 VDDQ, C8 DQ8, C9 VDDQ, D1 DQ12, D2 VSSQ, D3 DQ11, D7 DQ10, D8 VSSQ, D9 DQ13, E1 VDD, E2 NC, E3 VSS, E7 VSSQ, E8 LDQS#/NU, E9 VDDQ, F1 DQ6, F2 VSSQ, F3 LDM, F7 LDQS, F8 VSSQ, F9 DQ7, G1 VDDQ, G2 DQ1, G3 VDDQ, G7 VDDQ, G8 DQ0, G9 VDDQ, H1 DQ4, H2 VSSQ, H3 DQ3, H7 DQ2, H8 VSSQ, H9 DQ5, J1 VDDL, J2 VREF, J3 VSS, J7 VSSDL, J8 CK, J9 VDD, K2 CKE, K3 WE#, K7 RAS#, K8 CK#, K9 ODT, L1 BA2, L2 BA0, L3 BA1, L7 CAS#, L8 CS#, M2 A10, M3 A1, M7 A2, M8 A0, M9 VDD, N1 VSS, N2 A3, N3 A5, N7 A6, N8 A4, P2 A7, P3 A9, P7 A11, P8 A8, P9 VSS, R1 VDD, R2 A12, R3 RFU, R7 RFU, R8 A13

## MX29LV040C
designator U?, comment PLCC (MX29LV040C)
ID: 9341; DBDesc: Oupiin 5203-32TDNU, 32-pin PLCC SMD socket, RoHS compliant
footprint PLCC32-SKT
pins: 1 A18, 2 A16, 3 A15, 4 A12, 5 A7, 6 A6, 7 A5, 8 A4, 9 A3, 10 A2, 11 A1, 12 A0, 13 Q0, 14 Q1, 15 Q2, 16 GND, 17 Q3, 18 Q4, 19 Q5, 20 Q6, 21 Q7, 22 CE#, 23 A10, 24 OE#, 25 A11, 26 A9, 27 A8, 28 A13, 29 A14, 30 A17, 31 WE#, 32 VCC

## PC28F512M29EWxx
designator U?, comment PC28F512M29EW
DBDesc: Micron PC28F512M29EW, NOR flash, 512Mbit, 2.7V ~ 3.6V, -40°C ~ +85°C, 64-LBGA, RoHS compliant; ID: 25866
footprint BGA-PC28
pins: A1 RFU, A2 A3, A3 A7, A4 RY/BY#, A5 WE#, A6 A9, A7 A13, A8 RFU, B1 A26, B2 A4, B3 A17, B4 VPP/WP#, B5 RST#, B6 A8, B7 A12, B8 A22, C1 RFU, C2 A2, C3 A6, C4 A18, C5 A21, C6 A10, C7 A14, C8 A23, D1 RFU, D2 A1, D3 A5, D4 A20, D5 A19, D6 A11, D7 A15, D8 VCCQ, E1 RFU, E2 A0, E3 D0, E4 D2, E5 D5, E6 D7, E7 A16, E8 VSS, F1 VCCQ, F2 CE#, F3 D8, F4 D10, F5 D12, F6 D14, F7 BYTE#, F8 A24, G1 RFU, G2 OE#, G3 D9, G4 D11, G5 VCC, G6 D13, G7 D15/A-1, G8 A25, H1 RFU, H2 VSS, H3 D1, H4 D3, H5 D4, H6 D6, H7 VSS, H8 RFU

## PC104-A/B
designator J?, comment PC104
DBDesc: Oupiin 2047-2X32G00S5U, 32+32 dual-row stack-through PC/104 elevated socket standard insertion force, RoHS compliant; ID: 9340
footprint 2.54_2x32
pins: A1 IOCHK#, A2 SD7, A3 SD6, A4 SD5, A5 SD4, A6 SD3, A7 SD2, A8 SD1, A9 SD0, A10 IOCHRDY, A11 AEN, A12 SA19, A13 SA18, A14 SA17, A15 SA16, A16 SA15, A17 SA14, A18 SA13, A19 SA12, A20 SA11, A21 SA10, A22 SA9, A23 SA8, A24 SA7, A25 SA6, A26 SA5, A27 SA4, A28 SA3, A29 SA2, A30 SA1, A31 SA0, A32 GND, B1 GND, B2 RESET, B3 +5V, B4 IRQ9, B5 -5V, B6 DRQ2, B7 -12V, B8 SRDY#, B9 +12V, B10 KEY, B11 SMEMW#, B12 SMEMR#, B13 IOW#, B14 IOR#, B15 DACK3#, B16 DRQ3, B17 DACK1#, B18 DRQ1, B19 REFRESH#, B20 BCLK, B21 IRQ7, B22 IRQ6, B23 IRQ5, B24 IRQ4, B25 IRQ3, B26 DACK2#, B27 TC, B28 BALE, B29 +5V, B30 OSC, B31 GND, B32 GND

## PC104-C/D
designator J?, comment PC104
DBDesc: 20+20 dual-row stack-through PC/104 elevated socket, standard insertion force, RoHS compliant; ID: 9339
footprint 2.54_2x20
pins: C0 GND, C1 SBHE#, C2 LA23, C3 LA22, C4 LA21, C5 LA20, C6 LA19, C7 LA18, C8 LA17, C9 MEMR#, C10 MEMW#, C11 SD8, C12 SD9, C13 SD10, C14 SD11, C15 SD12, C16 SD13, C17 SD14, C18 SD15, C19 KEY, D0 GND, D1 MEMCS16#, D2 IOCS16#, D3 IRQ10, D4 IRQ11, D5 IRQ12, D6 IRQ15, D7 IRQ14, D8 DACK0#, D9 DRQ0, D10 DACK5#, D11 DRQ5, D12 DACK6#, D13 DRQ6, D14 DACK7#, D15 DRQ7, D16 +5V, D17 MASTER#, D18 GND, D19 GND

## PCB
designator PCB?, comment 29197
CCU CPU card; DBDesc: Pacific Aluminium MCP8308 PC-104 CPU Card PCB, rev 3, RoHS compliant; ID: 29197
footprint LABEL_OVR (Intellidesign label position (2013 copyright) on silkscreen)

## PCB_1
designator LOGO?, comment LOGO
do not populate, RoHS compliant; ID: 908; DBDesc: do not populate, RoHS compliant
footprint INTELLILOGO_SILKSCREEN

## PCB_2
designator MISC?, comment PLCC FLASH Memory
DBDesc: SST Spansion Am29LV040B-70JD or Am29LV040B-70JF, 4Mbit, 512k x 8 bit Uniform Block 3V FLASH memory 32-pin PLCC, RoHS compliant; ID: 9690
footprint PLCC

## PCB_3
designator MISC?, comment Micro SD card
PLCC Flash memory; DBDesc: SanDisk SDSDQUA-016G-UQ46A, 16 GB micro SD card, RoHS compliant; ID: 29198

## POST
designator MP?, comment Standoff
PEM SMTSO-M2-3ET, ReelFast SMT spacers/nuts, Type SMTSO, 3mm length, electroplated tin., RoHS compliant; ID: 908; DBDesc: do not populate, RoHS compliant
footprint SMTSO-M2
footprint PC104_MP
pins: 0

## Push-Button
designator PB?, comment Bourns 7914J-001-000
TE Connectivity FSMRA4JH, tactile switch, side actuated, 8.35mm actuator length, 160gf, 24VDC, 50mA, -35°C ~ 85°C , RoHS compliant; DBDesc: Bourns 7914J-001-000, SPNO SMT 4mm 24V 100mA washable push-button switch, RoHS compliant; ID: 10687
footprint 7914J (Footprint not found)
pins: 1 NO, 2 COM

## Res2
designator R?, comment 100
Resistor; ID: 12508; DBDesc: 100 ohm 1% 63mW 0402 AEC-Q200 qualified, RoHS compliant
footprint 0402R (Chip Capacitor, 2-Leads, Body 1.0x0.5mm, IPC Medium Density)
pins: 1, 2

## Res2_1
designator R?, comment 0
Resistor; ID: 17839; DBDesc: 0 Ohm link 100mW 0402 thick film resistor AEC-Q200, RoHS compliant
footprint 0402R (Chip Capacitor, 2-Leads, Body 1.0x0.5mm, IPC Medium Density)
pins: 1, 2

## Res2_2
designator R?, comment NF/1k
Resistor; ID: 908; DBDesc: do not populate, RoHS compliant; Preffered ID: 10987
footprint 0402R (Chip Capacitor, 2-Leads, Body 1.0x0.5mm, IPC Medium Density)
footprint NF_0402R
pins: 1, 2

## Res2_3
designator R?, comment NF/100k
Resistor; ID: 908; DBDesc: do not populate, RoHS compliant; Preffered ID: 21290
footprint 0402R (Chip Capacitor, 2-Leads, Body 1.0x0.5mm, IPC Medium Density)
footprint NF_0402R
pins: 1, 2

## Res2_4
designator R?, comment 100k
Resistor; ID: 21290; DBDesc: 100k 1% 63mW 0402 AEC-Q200 qualified metal-film resistor, RoHS compliant
footprint 0402R (Chip Capacitor, 2-Leads, Body 1.0x0.5mm, IPC Medium Density)
pins: 1, 2

## Res2_5
designator R?, comment NF
Resistor; ID: 908; DBDesc: do not populate, RoHS compliant; Preffered ID: 908
footprint 0402R (Chip Capacitor, 2-Leads, Body 1.0x0.5mm, IPC Medium Density)
footprint NF_0402R
pins: 1, 2

## Res2_6
designator R?, comment 22
Resistor; ID: 11279; DBDesc: 22 1% 62mW 0402 thick-film resistor AEC-Q200 qualified, RoHS compliant
footprint 0402R (Chip Capacitor, 2-Leads, Body 1.0x0.5mm, IPC Medium Density)
pins: 1, 2

## Res2_7
designator R?, comment 1k
Resistor; ID: 10987; DBDesc: 1k 1% 62mW 0402 thick-film resistor, RoHS compliant
footprint 0402R (Chip Capacitor, 2-Leads, Body 1.0x0.5mm, IPC Medium Density)
footprint 0402R_SML
pins: 1, 2

## Res2_8
designator R?, comment 10k
Resistor; ID: 13032; DBDesc: 10k 1% 63mW 0402 thick-film resistor, RoHS compliant
footprint 0402R (Chip Capacitor, 2-Leads, Body 1.0x0.5mm, IPC Medium Density)
pins: 1, 2

## Res2_9
designator R?, comment 4.7k
Resistor; ID: 13036; DBDesc: 4.7k 1% 63mW 0402 thick-film resistor, RoHS compliant
footprint 0402R (Chip Capacitor, 2-Leads, Body 1.0x0.5mm, IPC Medium Density)
footprint 0402R_SML
pins: 1, 2

## Res2_10
designator R?, comment 49.9
Resistor; ID: 12990; DBDesc: 49.9 1% 63mW 0402 thick-film resistor, RoHS compliant
footprint 0402R (Chip Capacitor, 2-Leads, Body 1.0x0.5mm, IPC Medium Density)
pins: 1, 2

## Res2_11
designator R?, comment 75
Resistor; ID: 15146; DBDesc: 75 1% 125mW 0603 thin-film resistor, RoHS compliant
footprint 0603R
pins: 1, 2

## Res2_12
designator R?, comment 12.1k 1%
Resistor; ID: 16351; DBDesc: 12.1k 1% 63mW 0402 thick-film resistor AEC-Q200 qualified, RoHS compliant
footprint 0402R (Chip Capacitor, 2-Leads, Body 1.0x0.5mm, IPC Medium Density)
pins: 1, 2

## Res2_13
designator R?, comment 1.5k
Resistor; ID: 13038; DBDesc: 1.5k 1% 63mW 0402 thick-film resistor AEC-Q200 qualified, RoHS compliant
footprint 0402R (Chip Capacitor, 2-Leads, Body 1.0x0.5mm, IPC Medium Density)
pins: 1, 2

## Res2_14
designator R?, comment 330
Resistor; ID: 15186; DBDesc: 330 5% 63mW 0402 thick-film resistor, RoHS compliant
footprint 0402R (Chip Capacitor, 2-Leads, Body 1.0x0.5mm, IPC Medium Density)
pins: 1, 2

## Res2_15
designator R?, comment 10Meg
Resistor; ID: 8887; DBDesc: 10M 1% 63mW  0402 thick-film resistor, RoHS compliant
footprint 0402R (Chip Capacitor, 2-Leads, Body 1.0x0.5mm, IPC Medium Density)
pins: 1, 2

## Res2_16
designator R?, comment NF/1
Resistor; ID: 908; DBDesc: do not populate, RoHS compliant
footprint 0402R_SML (Chip Capacitor, 2-Leads, Body 1.0x0.5mm, IPC Medium Density)
footprint NF_0402R_SML
pins: 1, 2

## Res2_17
designator R?, comment NF/22
Resistor; ID: 908; DBDesc: do not populate, RoHS compliant
footprint 0402R (Chip Capacitor, 2-Leads, Body 1.0x0.5mm, IPC Medium Density)
footprint NF_0402R
pins: 1, 2

## Res2_18
designator R?, comment 10
Resistor; ID: 12744; DBDesc: 10 1% 63mW 0402 thick-film resistor, RoHS compliant
footprint 0402R (Chip Capacitor, 2-Leads, Body 1.0x0.5mm, IPC Medium Density)
footprint 0402R_SML
pins: 1, 2

## Res2_19
designator R?, comment 10m
Resistor; ID: 21805; DBDesc: 10m 0805 0-350ppm 5% 250mW current sense resistor, RoHS compliant
footprint 0805R
pins: 1, 2

## Res2_20
designator R?, comment 150k
Resistor; ID: 18550; DBDesc: 150k 1% 100mW 0402 thick-film resistor, RoHS compliant
footprint 0402R (Chip Capacitor, 2-Leads, Body 1.0x0.5mm, IPC Medium Density)
pins: 1, 2

## Res2_21
designator R?, comment 27k
Resistor; ID: 26551; DBDesc: 27k 1% 62mW 0402 Thick Film resistor
footprint 0402R (Chip Capacitor, 2-Leads, Body 1.0x0.5mm, IPC Medium Density)
pins: 1, 2

## Res2_22
designator R?, comment 191k
Resistor; ID: 21825; DBDesc: 191k 1% 63mW 100ppm 0402 AEC-Q200 thick film resistor, RoHS compliant
footprint 0402R (Chip Capacitor, 2-Leads, Body 1.0x0.5mm, IPC Medium Density)
pins: 1, 2

## Res2_23
designator R?, comment 47k
Resistor; ID: 25864; DBDesc: 47k 1% 63mW 0402 thick-film resistor, RoHS compliant
footprint 0402R (Chip Capacitor, 2-Leads, Body 1.0x0.5mm, IPC Medium Density)
pins: 1, 2

## Res2_24
designator R?, comment 0 link
Resistor; ID: 8525; DBDesc: 0 ohm 0805 metal-film resistor, RoHS compliant
footprint 1206R
footprint NF_0402R
footprint 0805R
pins: 1, 2

## Res Pack
designator RP?, comment NF/51
ID: 908; DBDesc: do not populate, RoHS compliant; Preffered ID: 14393
footprint ARV341
footprint NF_ARV341
part A pins: 1, 8
part B pins: 2, 7
part C pins: 3, 6
part D pins: 4, 5

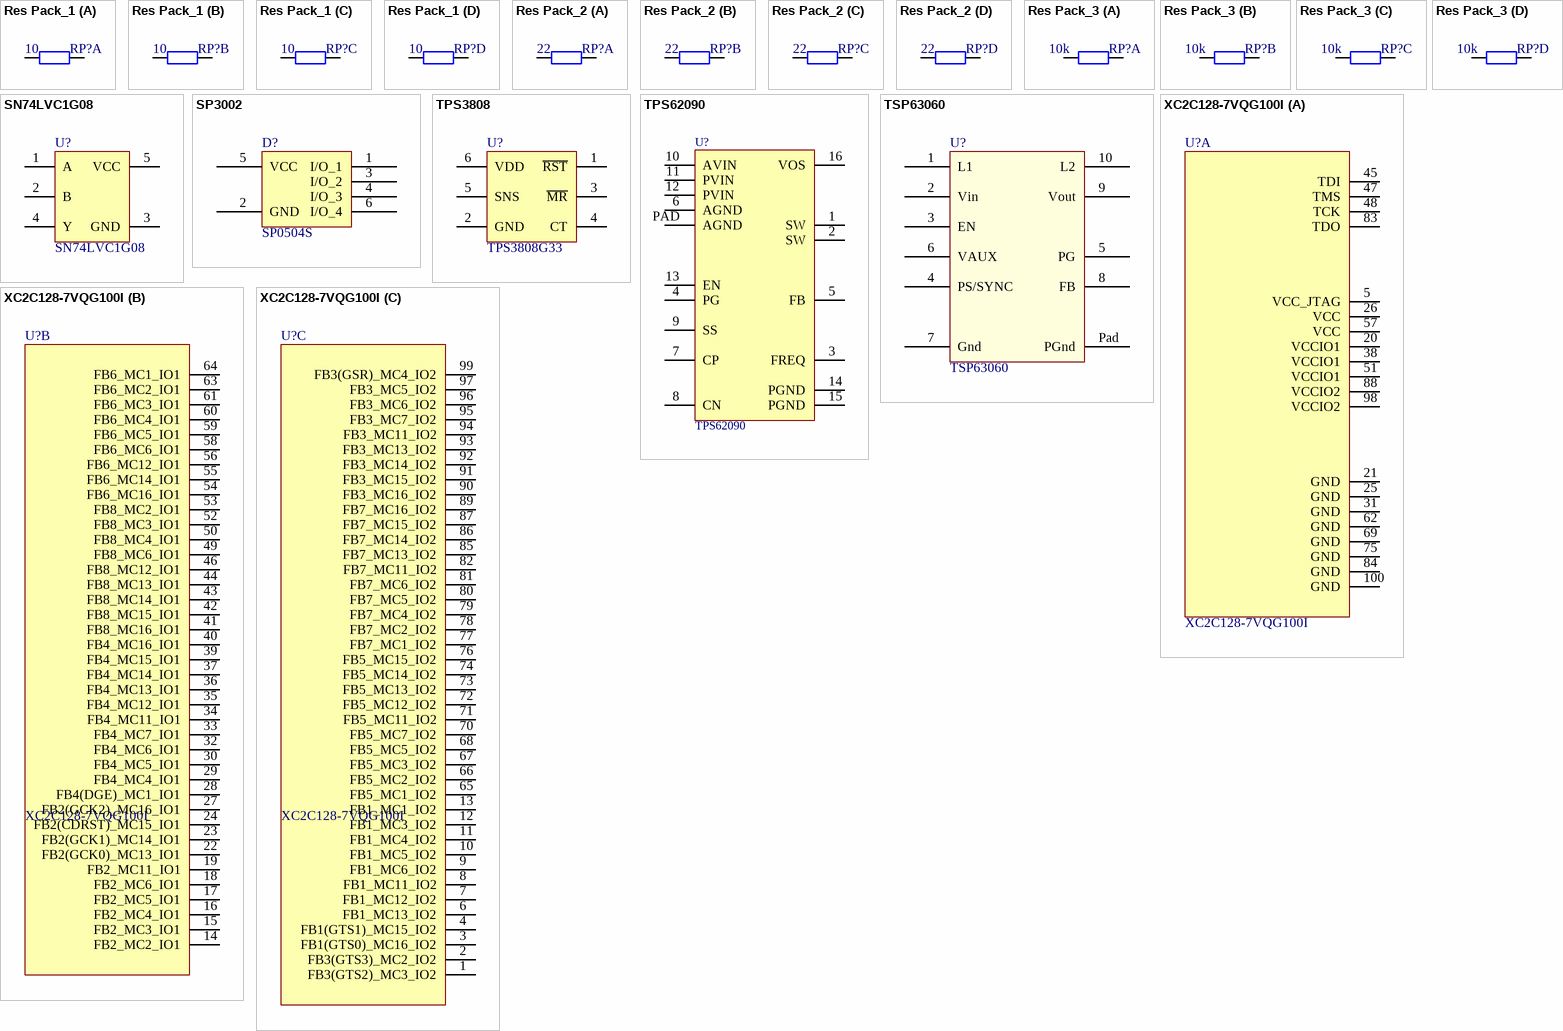
[diagram p5: symbols Res Pack_1 to XC2C128-7VQG100I]

## Res Pack_1
designator RP?, comment 10
ID: 2920; DBDesc: 10 5% 62mW 4 x 0402 array chip resistors, RoHS compliant
footprint ARV341
part A pins: 1, 8
part B pins: 2, 7
part C pins: 3, 6
part D pins: 4, 5

## Res Pack_2
designator RP?, comment 22
ID: 11280; DBDesc: 22 5% 62mW 4 x 0402 array chip resistors, RoHS compliant
footprint ARV341
part A pins: 1, 8
part B pins: 2, 7
part C pins: 3, 6
part D pins: 4, 5

## Res Pack_3
designator RP?, comment 10k
ID: 16316; DBDesc: 10k 5% 62mW 4 x 0402 array chip resistors, RoHS compliant
footprint ARV341
part A pins: 1, 8
part B pins: 2, 7
part C pins: 3, 6
part D pins: 4, 5

## SN74LVC1G08
designator U?
ID: 9393; DBDesc: Texas Instruments SN74LVC1G08DBVR, single 2-input AND gate SOT23-5 package, RoHS compliant
footprint SOT-23-5 (6 pin SOT23 SMD)
pins: 1 A, 2 B, 3 GND, 4 Y, 5 VCC

## SP3002
designator D?, comment SP0504S
ID: 28614; DBDesc: Littelfuse SP0504SHTG TVS diode array, low capacitance 0.5pF, clamping voltage V=13V, 4 channels, suitable for HDMI, DVI, USB2.0, IEEE1394. SOT-23-6 package., RoHS compliant
footprint SOT-23-6 (6 pin SOT23 SMD)
pins: 1 I/O_1, 2 GND, 3 I/O_2, 4 I/O_3, 5 VCC, 6 I/O_4

## TPS3808
designator U?, comment TPS3808G33
ID: 14289; DBDesc: Texas Instruments TPS3808G33DBV, voltage supervisor 3.3V nominal SOT23-6, RoHS compliant
footprint SOT-23-6 (6 pin SOT23 SMD)
pins: 1 ~{RST}, 2 GND, 3 ~{MR}, 4 CT, 5 SNS, 6 VDD

## TPS62090
designator U?
'''TI TPS62090 Integrated Sync. Buck Converter''' / - fsw=1.4/2.8MHz / - Vin = 2.5-6V, Vout=0.8-Vin, Iout=3A / - 3x3mm QFN-16, RoHS compliant; ID: 21555; DBDesc: '''TI TPS62090 Integrated Sync. Buck Converter''' / - fsw=1.4/2.8MHz / - Vin = 2.5-6V, Vout=0.8-Vin, Iout=3A / - 3x3mm QFN-16, RoHS compliant
footprint QFN-16-TI (Quad flat no-lead 16-pin Linear Technology)
pins: 1 SW, 2 SW, 3 FREQ, 4 PG, 5 FB, 6 AGND, 7 CP, 8 CN, 9 SS, 10 AVIN, 11 PVIN, 12 PVIN, 13 EN, 14 PGND, 15 PGND, 16 VOS, PAD AGND

## TSP63060
designator U?
High Input voltage Buck-Boost converter fixed 5v output; ID: 22584; DBDesc: TPS63060 Integrated buck-boost converter, adjustable output, 2A internal switch, SON-10, RoHS compliant
footprint PWSON-N10 (10-lead plastic small outline no lead, TI DSK package)
pins: 1 L1, 2 Vin, 3 EN, 4 PS/SYNC, 5 PG (power), 6 VAUX, 7 Gnd (power), 8 FB "Voltage Feedback", 9 Vout (power) "Voltage Feedback", 10 L2 (power) "Voltage Feedback", Pad PGnd (power)

## XC2C128-7VQG100I
designator U?
ID: 26058; DBDesc: XC2C128-7VQG100I CoolRunner-II CPLD, -40°C ~ 85°C, QFP-100, RoHS compliant
footprint VQG100
part A pins: 5 VCC_JTAG, 20 VCCIO1, 21 GND, 25 GND, 26 VCC, 31 GND, 38 VCCIO1, 45 TDI, 47 TMS, 48 TCK, 51 VCCIO1, 57 VCC, 62 GND, 69 GND, 75 GND, 83 TDO, 84 GND, 88 VCCIO2, 98 VCCIO2, 100 GND
part B pins: 14 FB2_MC2_IO1, 15 FB2_MC3_IO1, 16 FB2_MC4_IO1, 17 FB2_MC5_IO1, 18 FB2_MC6_IO1, 19 FB2_MC11_IO1, 22 FB2(GCK0)_MC13_IO1, 23 FB2(GCK1)_MC14_IO1, 24 FB2(CDRST)_MC15_IO1, 27 FB2(GCK2)_MC16_IO1, 28 FB4(DGE)_MC1_IO1, 29 FB4_MC4_IO1, 30 FB4_MC5_IO1, 32 FB4_MC6_IO1, 33 FB4_MC7_IO1, 34 FB4_MC11_IO1, 35 FB4_MC12_IO1, 36 FB4_MC13_IO1, 37 FB4_MC14_IO1, 39 FB4_MC15_IO1, 40 FB4_MC16_IO1, 41 FB8_MC16_IO1, 42 FB8_MC15_IO1, 43 FB8_MC14_IO1, 44 FB8_MC13_IO1, 46 FB8_MC12_IO1, 49 FB8_MC6_IO1, 50 FB8_MC4_IO1, 52 FB8_MC3_IO1, 53 FB8_MC2_IO1, 54 FB6_MC16_IO1, 55 FB6_MC14_IO1, 56 FB6_MC12_IO1, 58 FB6_MC6_IO1, 59 FB6_MC5_IO1, 60 FB6_MC4_IO1, 61 FB6_MC3_IO1, 63 FB6_MC2_IO1, 64 FB6_MC1_IO1
part C pins: 1 FB3(GTS2)_MC3_IO2, 2 FB3(GTS3)_MC2_IO2, 3 FB1(GTS0)_MC16_IO2, 4 FB1(GTS1)_MC15_IO2, 6 FB1_MC13_IO2, 7 FB1_MC12_IO2, 8 FB1_MC11_IO2, 9 FB1_MC6_IO2, 10 FB1_MC5_IO2, 11 FB1_MC4_IO2, 12 FB1_MC3_IO2, 13 FB1_MC1_IO2, 65 FB5_MC1_IO2, 66 FB5_MC2_IO2, 67 FB5_MC3_IO2, 68 FB5_MC5_IO2, 70 FB5_MC7_IO2, 71 FB5_MC11_IO2, 72 FB5_MC12_IO2, 73 FB5_MC13_IO2, 74 FB5_MC14_IO2, 76 FB5_MC15_IO2, 77 FB7_MC1_IO2, 78 FB7_MC2_IO2, 79 FB7_MC4_IO2, 80 FB7_MC5_IO2, 81 FB7_MC6_IO2, 82 FB7_MC11_IO2, 85 FB7_MC13_IO2, 86 FB7_MC14_IO2, 87 FB7_MC15_IO2, 89 FB7_MC16_IO2, 90 FB3_MC16_IO2, 91 FB3_MC15_IO2, 92 FB3_MC14_IO2, 93 FB3_MC13_IO2, 94 FB3_MC11_IO2, 95 FB3_MC7_IO2, 96 FB3_MC6_IO2, 97 FB3_MC5_IO2, 99 FB3(GSR)_MC4_IO2